# Altium schematic symbol library RPSLib.SchLib: 241 symbols (part 8 of 8)
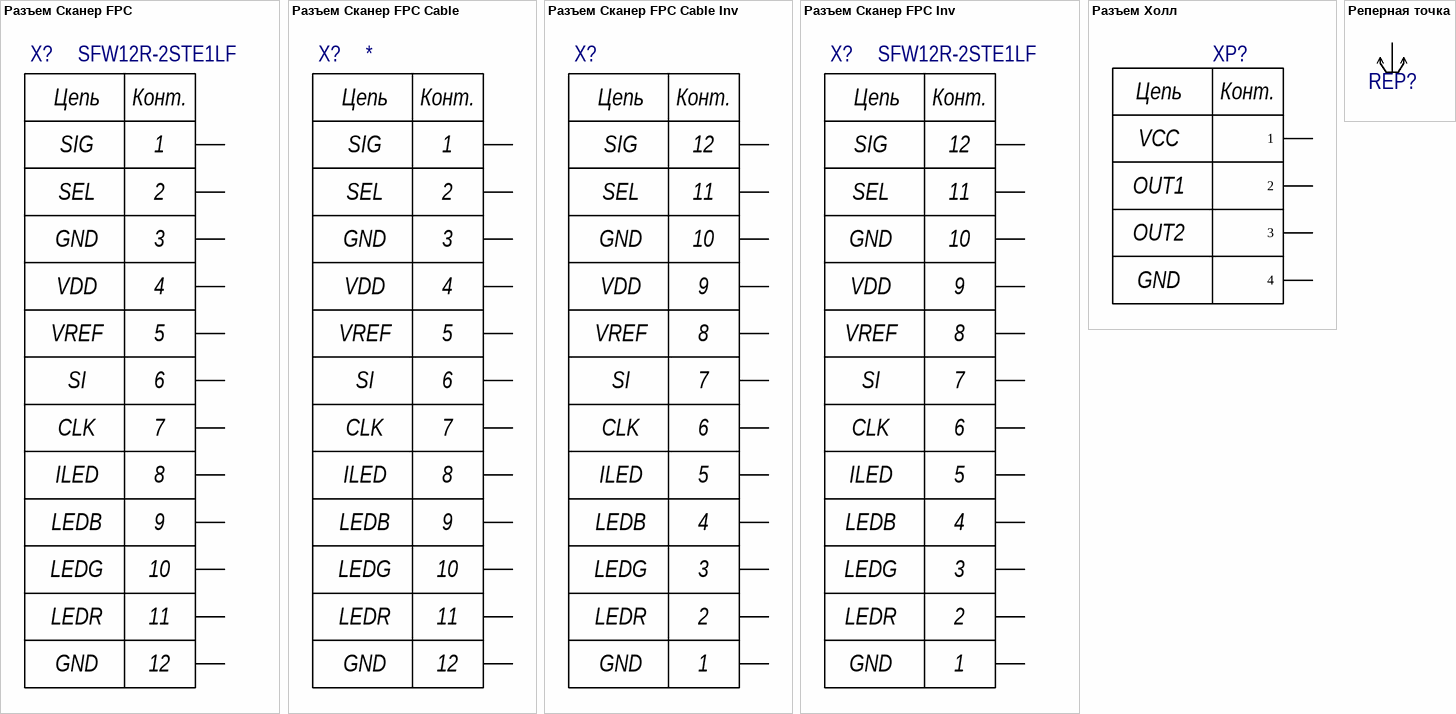
[diagram p32: symbols Разъем Сканер FPC to Реперная точка]

## Разъем Сканер FPC
designator X?, comment SFW12R-2STE1LF
CONN FFC FPC TOP 12POS 1MM R/A; Manufacturer: Amphenol FCI; Actuator Material: Glass,Polyphenylene; Number of Contacts: 12; Current Rating: 1A; Voltage Rating: 100V; Contact Resistance: 30mR; Insulation Resistance: 500MR; Gender: Receptacle; Wire/Cable Type: Straight; Supplier 1: Digi-Key; Manufacturer Part Number: SFW12R-2STE1LF; RoHS: Yes; Category: FFC / FPC; Stock 1: 3928; Pricing 1: 1=0,91000, 10=0,80400, 25=0,75640, 50=0,72480, 100=0,69330, 250=0,63032, 500=0,56728, 1000=0,50424 (USD); Mount: Surface Mount; Contact Material: Bronze; Contact Plating: Tin; Housing Color: Brown; Housing Material: Polyphenylene; Min Operating Temperature: -55°C; Max Operating Temperature: 105°C; Number of Rows: 1; Termination: Solder; Orientation: Right Angle; Packaging: Tape and Reel; Package Quantity: 2000; Voltage Rating (AC): 100V; Number of Positions: 12; Contact Location: Top; Max Voltage Rating (AC): 100V; Max Voltage Rating (DC): 100V; Length: 17.8mm; Pitch: 1mm; Depth: 6mm; Width: 5.5mm; Radiation Hardening: No; REACH SVHC: No SVHC; Lead Free: Lead Free; Flammability Rating: UL94 V-0; ComponentLink1URL: https://datasheet.ciiva.com/8038/1651204-8038066.pdf?src-supplier=Element14; ComponentLink1Description: https://datasheet.ciiva.com/8038/1651204-8038066.pdf?src-supplier=Element14; ComponentLink2URL: https://datasheet.ciiva.com/670/sfw12lf-670182.pdf?src-supplier=Digi-Key; ComponentLink2Description: https://datasheet.ciiva.com/670/sfw12lf-670182.pdf?src-supplier=Digi-Key; ComponentLink3URL: https://datasheet.ciiva.com/3112/sfw12lf-3112502.pdf?src-supplier=Avnet; ComponentLink3Description: https://datasheet.ciiva.com/3112/sfw12lf-3112502.pdf?src-supplier=Avnet; ComponentLink4URL: https://datasheet.ciiva.com/670/sfw12lf-670183.pdf?src-supplier=Digi-Key; ComponentLink4Description: https://datasheet.ciiva.com/670/sfw12lf-670183.pdf?src-supplier=Digi-Key; ComponentLink5URL: https://datasheet.ciiva.com/16659/sfw12lf-16659559.pdf?src-supplier=Avnet+Europe; ComponentLink5Description: https://datasheet.ciiva.com/16659/sfw12lf-16659559.pdf?src-supplier=Avnet+Europe; ComponentLink6URL: https://datasheet.ciiva.com/670/sfw12lf-670184.pdf?src-supplier=Digi-Key; ComponentLink6Description: https://datasheet.ciiva.com/670/sfw12lf-670184.pdf?src-supplier=Digi-Key; ComponentLink7URL: https://datasheet.ciiva.com/5137/sfw12lf-5137627.pdf?src-supplier=Mouser; ComponentLink7Description: https://datasheet.ciiva.com/5137/sfw12lf-5137627.pdf?src-supplier=Mouser; ComponentLink8URL: https://datasheet.ciiva.com/15176/getdatasheetpartid-71252-15176315.pdf?src-supplier=Verical; ComponentLink8Description: https://datasheet.ciiva.com/15176/getdatasheetpartid-71252-15176315.pdf?src-supplier=Verical; Supplier Part Number 1: 609-1901-1-ND
footprint SFW12R-2STE1LF
pins: 1 SIG, 2 SEL, 3 GND, 4 VDD, 5 VREF, 6 SI, 7 CLK, 8 ILED, 9 LEDB, 10 LEDG, 11 LEDR, 12 GND
text: Цепь; Конт.

## Разъем Сканер FPC Cable
designator X?  (no BOM)
Category: FFC / FPC
footprint FPC-1x12 (FPC cable 1 mm pitch, 12 pos)
pins: 1 SIG, 2 SEL, 3 GND, 4 VDD, 5 VREF, 6 SI, 7 CLK, 8 ILED, 9 LEDB, 10 LEDG, 11 LEDR, 12 GND
text: Цепь; Конт.

## Разъем Сканер FPC Cable Inv
designator X?  (value not drawn)  (no BOM)
Category: FFC / FPC
footprint FPC-1x12 (FPC cable 1 mm pitch, 12 pos)
pins: 1 GND, 2 LEDR, 3 LEDG, 4 LEDB, 5 ILED, 6 CLK, 7 SI, 8 VREF, 9 VDD, 10 GND, 11 SEL, 12 SIG
text: Цепь; Конт.

## Разъем Сканер FPC Inv
designator X?, comment SFW12R-2STE1LF
CONN FFC FPC TOP 12POS 1MM R/A; Manufacturer: Amphenol FCI; Actuator Material: Glass,Polyphenylene; Number of Contacts: 12; Current Rating: 1A; Voltage Rating: 100V; Contact Resistance: 30mR; Insulation Resistance: 500MR; Gender: Receptacle; Wire/Cable Type: Straight; Supplier 1: Digi-Key; Manufacturer Part Number: SFW12R-2STE1LF; RoHS: Yes; Category: FFC / FPC; Stock 1: 3928; Pricing 1: 1=0,91000, 10=0,80400, 25=0,75640, 50=0,72480, 100=0,69330, 250=0,63032, 500=0,56728, 1000=0,50424 (USD); Mount: Surface Mount; Contact Material: Bronze; Contact Plating: Tin; Housing Color: Brown; Housing Material: Polyphenylene; Min Operating Temperature: -55°C; Max Operating Temperature: 105°C; Number of Rows: 1; Termination: Solder; Orientation: Right Angle; Packaging: Tape and Reel; Package Quantity: 2000; Voltage Rating (AC): 100V; Number of Positions: 12; Contact Location: Top; Max Voltage Rating (AC): 100V; Max Voltage Rating (DC): 100V; Length: 17.8mm; Pitch: 1mm; Depth: 6mm; Width: 5.5mm; Radiation Hardening: No; REACH SVHC: No SVHC; Lead Free: Lead Free; Flammability Rating: UL94 V-0; ComponentLink1URL: https://datasheet.ciiva.com/8038/1651204-8038066.pdf?src-supplier=Element14; ComponentLink1Description: https://datasheet.ciiva.com/8038/1651204-8038066.pdf?src-supplier=Element14; ComponentLink2URL: https://datasheet.ciiva.com/670/sfw12lf-670182.pdf?src-supplier=Digi-Key; ComponentLink2Description: https://datasheet.ciiva.com/670/sfw12lf-670182.pdf?src-supplier=Digi-Key; ComponentLink3URL: https://datasheet.ciiva.com/3112/sfw12lf-3112502.pdf?src-supplier=Avnet; ComponentLink3Description: https://datasheet.ciiva.com/3112/sfw12lf-3112502.pdf?src-supplier=Avnet; ComponentLink4URL: https://datasheet.ciiva.com/670/sfw12lf-670183.pdf?src-supplier=Digi-Key; ComponentLink4Description: https://datasheet.ciiva.com/670/sfw12lf-670183.pdf?src-supplier=Digi-Key; ComponentLink5URL: https://datasheet.ciiva.com/16659/sfw12lf-16659559.pdf?src-supplier=Avnet+Europe; ComponentLink5Description: https://datasheet.ciiva.com/16659/sfw12lf-16659559.pdf?src-supplier=Avnet+Europe; ComponentLink6URL: https://datasheet.ciiva.com/670/sfw12lf-670184.pdf?src-supplier=Digi-Key; ComponentLink6Description: https://datasheet.ciiva.com/670/sfw12lf-670184.pdf?src-supplier=Digi-Key; ComponentLink7URL: https://datasheet.ciiva.com/5137/sfw12lf-5137627.pdf?src-supplier=Mouser; ComponentLink7Description: https://datasheet.ciiva.com/5137/sfw12lf-5137627.pdf?src-supplier=Mouser; ComponentLink8URL: https://datasheet.ciiva.com/15176/getdatasheetpartid-71252-15176315.pdf?src-supplier=Verical; ComponentLink8Description: https://datasheet.ciiva.com/15176/getdatasheetpartid-71252-15176315.pdf?src-supplier=Verical; Supplier Part Number 1: 609-1901-1-ND
footprint SFW12R-2STE1LF
pins: 1 SIG, 2 SEL, 3 GND, 4 VDD, 5 VREF, 6 SI, 7 CLK, 8 ILED, 9 LEDB, 10 LEDG, 11 LEDR, 12 GND
text: Цепь; Конт.

## Разъем Холл
designator XP?, comment BM04B-SRSS-TB(LF)(SN)  (value not drawn)
CONN HEADER SMD 4POS 1MM; Manufacturer: JST; Number of Positions: 4; Connector Type: Male Pin; Current Rating: 1A; Contact Resistance: 40mR; Voltage Rating (AC): 50V; Insulation Resistance: 100MR; Gender: Male; Pitch: 0.039inch; Supplier 1: Digi-Key; Manufacturer Part Number: BM04B-SRSS-TB(LF)(SN); RoHS: Yes; Category: Connectors; Stock 1: 28453; Pricing 1: 1=0,63000, 10=0,59200, 100=0,45400, 500=0,39480 (USD); Mount: Surface Mount; Contact Plating: Tin,Lead,Copper; Contact Material: Copper Alloy; Color: Natural; Housing Color: Beige; Housing Material: Polyamide; Material: Polyamide; Min Operating Temperature: -25°C; Max Operating Temperature: 85°C; Number of Rows: 1; Termination: Solder; Packaging: Tape and Reel; Number of Contacts: 4; Orientation: Straight; Max Current Rating: 1A; Max Voltage Rating (AC): 50V; Max Voltage Rating (DC): 50V; Length: 6mm; Lead Pitch: 1mm; Depth: 2.9mm; Lead Free: Lead Free; REACH SVHC: No SVHC; Flammability Rating: UL94 V-0; ComponentLink1URL: https://datasheet.ciiva.com/26894/getdatasheetpartid-690899-26894827.pdf?src-supplier=Verical; ComponentLink1Description: https://datasheet.ciiva.com/26894/getdatasheetpartid-690899-26894827.pdf?src-supplier=Verical; ComponentLink2URL: https://datasheet.ciiva.com/26924/getdatasheetpartid-708793-26924043.pdf?src-supplier=Verical; ComponentLink2Description: https://datasheet.ciiva.com/26924/getdatasheetpartid-708793-26924043.pdf?src-supplier=Verical; ComponentLink3URL: https://datasheet.ciiva.com/16211/esr-16211085.pdf?src-supplier=Future+Electronics; ComponentLink3Description: https://datasheet.ciiva.com/16211/esr-16211085.pdf?src-supplier=Future+Electronics; Supplier Part Number 1: 455-1790-1-ND
footprint BM04B-SRSS-TB(LF)(SN) (JST 1.0 mm pitch connector)
pins: 1, 2, 3, 4
text: Цепь; Конт.; VCC; OUT1; OUT2; GND

## Реперная точка
designator REP?  (value not drawn)  (no BOM)
footprint Reper (Опорная точка)
pins: R0 IO